# Altium integrated library AD Voltage Controlled Amplifier.IntLib: 8 symbols
Pins are listed as number, name and electrical type; pins without a type are passive.

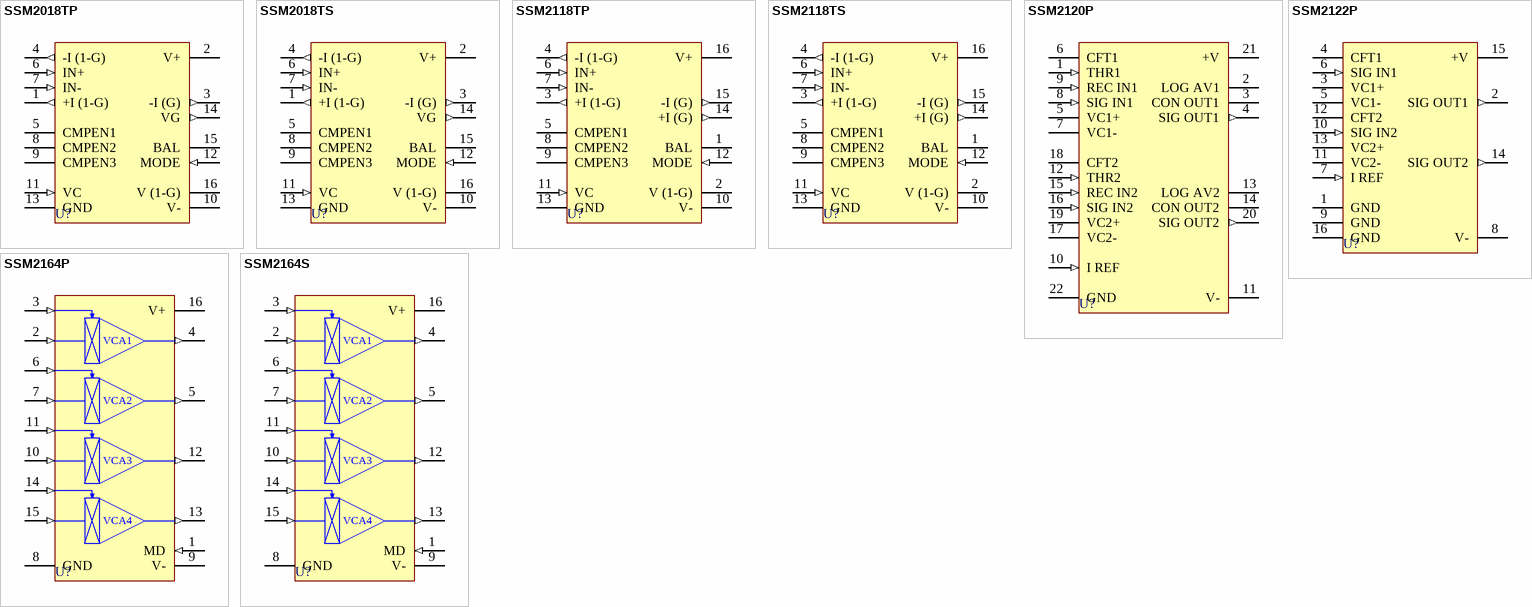
[diagram p0: symbols SSM2018TP to SSM2164S]

## SSM2018TP
designator U?
Trimless Voltage Controlled Amplifier; ComponentAvailability: Obsolete; Published: 8-Jun-2000; LatestRevisionDate: 04-Mar-2005; LatestRevisionNote: Stylized 3D Model Added.; DatasheetVersion: REV.A 1999; PackageReference: N-16_A; Publisher: Altium Limited; PackageDescription: DIP; 16 Leads; Row Spacing 7.62 mm; Pitch 2.54 mm; ComponentLink1Description: Manufacturer Link; ComponentLink1URL: http://www.analog.com/
footprint N-16_A (DIP; 16 Leads; Row Spacing 7.62 mm; Pitch 2.54 mm)
3D model N16-A (DIP; 16 Leads; Row Spacing 7.62 mm; Pitch 2.54 mm)
pins: 1 +I (1-G) (out), 2 V+ (power), 3 -I (G) (out), 4 -I (1-G) (out), 5 CMPEN1, 6 IN+ (in), 7 IN- (in), 8 CMPEN2, 9 CMPEN3, 10 V- (power), 11 VC (in), 12 MODE (in), 13 GND (power), 14 VG (out), 15 BAL, 16 V (1-G)

## SSM2018TS
designator U?
Trimless Voltage Controlled Amplifier; ComponentAvailability: Obsolete; Published: 8-Jun-2000; LatestRevisionDate: 13-Apr-2006; LatestRevisionNote: IPC-7351 Footprint Added.; DatasheetVersion: REV.A 1999; PackageVersion: revA 1996; PackageReference: R-16; Publisher: Altium Limited; PackageDescription: 16-Pin Small Outline Integrated Circuit 1.27 mm Pitch; Code_JEDEC: MS-013-AA; Code_IPC: SOIC127P1030-16; ComponentLink1Description: Manufacturer Link; ComponentLink1URL: http://www.analog.com/
footprint R-16_N (SOIC, 16-Leads, Body 10.3x7.5mm, Pitch 1.27mm, IPC Medium Density)
footprint R-16_L (SOIC, 16-Leads, Body 10.3x7.5mm, Pitch 1.27mm, IPC High Density)
footprint R-16_M (SOIC, 16-Leads, Body 10.3x7.5mm, Pitch 1.27mm, IPC Low Density)
3D model R-16 (16-Pin Small Outline Integrated Circuit 1.27 mm Pitch)
pins: 1 +I (1-G) (out), 2 V+ (power), 3 -I (G) (out), 4 -I (1-G) (out), 5 CMPEN1, 6 IN+ (in), 7 IN- (in), 8 CMPEN2, 9 CMPEN3, 10 V- (power), 11 VC (in), 12 MODE (in), 13 GND (power), 14 VG (out), 15 BAL, 16 V (1-G)

## SSM2118TP
designator U?
Trimless Voltage Controlled Amplifier; ComponentAvailability: Obsolete; Published: 8-Jun-2000; LatestRevisionDate: 04-Mar-2005; LatestRevisionNote: Stylized 3D Model Added.; DatasheetVersion: REV.A 1999; PackageReference: N-16_A; Publisher: Altium Limited; PackageDescription: DIP; 16 Leads; Row Spacing 7.62 mm; Pitch 2.54 mm; ComponentLink1Description: Manufacturer Link; ComponentLink1URL: http://www.analog.com/
footprint N-16_A (DIP; 16 Leads; Row Spacing 7.62 mm; Pitch 2.54 mm)
3D model N16-A (DIP; 16 Leads; Row Spacing 7.62 mm; Pitch 2.54 mm)
pins: 1 BAL, 2 V (1-G), 3 +I (1-G) (out), 4 -I (1-G) (out), 5 CMPEN1, 6 IN+ (in), 7 IN- (in), 8 CMPEN2, 9 CMPEN3, 10 V- (power), 11 VC (in), 12 MODE (in), 13 GND (power), 14 +I (G) (out), 15 -I (G) (out), 16 V+ (power)

## SSM2118TS
designator U?
Trimless Voltage Controlled Amplifier; ComponentAvailability: Obsolete; Published: 8-Jun-2000; LatestRevisionDate: 13-Apr-2006; LatestRevisionNote: IPC-7351 Footprint Added.; DatasheetVersion: REV.A 1999; PackageVersion: revA 1996; PackageReference: R-16; Publisher: Altium Limited; PackageDescription: 16-Pin Small Outline Integrated Circuit 1.27 mm Pitch; Code_JEDEC: MS-013-AA; Code_IPC: SOIC127P1030-16; ComponentLink1Description: Manufacturer Link; ComponentLink1URL: http://www.analog.com/
footprint R-16_N (SOIC, 16-Leads, Body 10.3x7.5mm, Pitch 1.27mm, IPC Medium Density)
footprint R-16_L (SOIC, 16-Leads, Body 10.3x7.5mm, Pitch 1.27mm, IPC High Density)
footprint R-16_M (SOIC, 16-Leads, Body 10.3x7.5mm, Pitch 1.27mm, IPC Low Density)
3D model R-16 (16-Pin Small Outline Integrated Circuit 1.27 mm Pitch)
pins: 1 BAL, 2 V (1-G), 3 +I (1-G) (out), 4 -I (1-G) (out), 5 CMPEN1, 6 IN+ (in), 7 IN- (in), 8 CMPEN2, 9 CMPEN3, 10 V- (power), 11 VC (in), 12 MODE (in), 13 GND (power), 14 +I (G) (out), 15 -I (G) (out), 16 V+ (power)

## SSM2120P
designator U?
Dynamic Range Processor/Dual VCA; ComponentAvailability: Obsolete; Published: 8-Jun-2000; LatestRevisionDate: 04-Mar-2005; LatestRevisionNote: Stylized 3D Model Added.; DatasheetVersion: REV.C 1995; PackageVersion: revC; PackageReference: N-22; Publisher: Altium Limited; PackageDescription: DIP; 22 Leads; Row Spacing 7.62 mm; Pitch 2.54 mm; ComponentLink1Description: Manufacturer Link; ComponentLink1URL: http://www.analog.com/; ComponentLink2Description: Datasheet; ComponentLink2URL: http://www.analog.com/UploadedFiles/Obsolete_Data_Sheets/105738070SSM2120.pdf
footprint N-22 (DIP; 22 Leads; Row Spacing 7.62 mm; Pitch 2.54 mm)
3D model N22 (DIP; 22 Leads; Row Spacing 7.62 mm; Pitch 2.54 mm)
pins: 1 THR1 (in), 2 LOG AV1 (oe), 3 CON OUT1 (oe), 4 SIG OUT1 (out), 5 VC1+, 6 CFT1, 7 VC1-, 8 SIG IN1 (in), 9 REC IN1 (in), 10 I REF (in), 11 V- (power), 12 THR2 (in), 13 LOG AV2 (oe), 14 CON OUT2 (oe), 15 REC IN2 (in), 16 SIG IN2 (in), 17 VC2-, 18 CFT2, 19 VC2+, 20 SIG OUT2 (out), 21 +V (power), 22 GND (power)

## SSM2122P
designator U?
Dynamic Range Processor/Dual VCA; ComponentAvailability: Obsolete; Published: 8-Jun-2000; LatestRevisionDate: 04-Mar-2005; LatestRevisionNote: Stylized 3D Model Added.; DatasheetVersion: REV.C 1995; PackageReference: N-16_A; Publisher: Altium Limited; PackageDescription: DIP; 16 Leads; Row Spacing 7.62 mm; Pitch 2.54 mm; ComponentLink1Description: Manufacturer Link; ComponentLink1URL: http://www.analog.com/; ComponentLink2Description: Datasheet; ComponentLink2URL: http://www.analog.com/UploadedFiles/Obsolete_Data_Sheets/105738070SSM2120.pdf
footprint N-16_A (DIP; 16 Leads; Row Spacing 7.62 mm; Pitch 2.54 mm)
3D model N16-A (DIP; 16 Leads; Row Spacing 7.62 mm; Pitch 2.54 mm)
pins: 1 GND (power), 2 SIG OUT1 (out), 3 VC1+, 4 CFT1, 5 VC1-, 6 SIG IN1 (in), 7 I REF (in), 8 V- (power), 9 GND (power), 10 SIG IN2 (in), 11 VC2-, 12 CFT2, 13 VC2+, 14 SIG OUT2 (out), 15 +V (power), 16 GND (power)

## SSM2164P
designator U?
Low-Cost Quad Voltage Controlled Amplifier; Published: 8-Jun-2000; LatestRevisionDate: 04-Mar-2005; LatestRevisionNote: Stylized 3D Model Added.; DatasheetVersion: REV.0 1999; PackageReference: N-16_A; Publisher: Altium Limited; PackageDescription: DIP; 16 Leads; Row Spacing 7.62 mm; Pitch 2.54 mm; ComponentLink1Description: Manufacturer Link; ComponentLink1URL: http://www.analog.com/en/prod/0%2C2877%2CSSM2164%2C00.html; ComponentLink2Description: Datasheet; ComponentLink2URL: http://www.analog.com/UploadedFiles/Data_Sheets/15183786ssm2164.pdf
footprint N-16_A (DIP; 16 Leads; Row Spacing 7.62 mm; Pitch 2.54 mm)
3D model N16-A (DIP; 16 Leads; Row Spacing 7.62 mm; Pitch 2.54 mm)
pins: 1 MD (in), 2 I IN1 (in), 3 VC1 (in), 4 I OUT1 (out), 5 I OUT2 (out), 6 VC2 (in), 7 I IN2 (in), 8 GND (power), 9 V- (power), 10 I IN3 (in), 11 VC3 (in), 12 I OUT3 (out), 13 I OUT4 (out), 14 VC4 (in), 15 I IN4 (in), 16 V+ (power)
text: VCA1; VCA2; VCA3; VCA4

## SSM2164S
designator U?
Low-Cost Quad Voltage Controlled Amplifier; Published: 8-Jun-2000; LatestRevisionDate: 13-Apr-2006; LatestRevisionNote: IPC-7351 Footprint Added.; DatasheetVersion: REV.0 1999; PackageReference: R-16A; Publisher: Altium Limited; PackageDescription: 16-Pin Small Outline Integrated Circuit 1.27 mm Pitch; Code_JEDEC: MS-012-AC; Code_IPC: SOIC127P600-16; ComponentLink1Description: Manufacturer Link; ComponentLink1URL: http://www.analog.com/en/prod/0%2C2877%2CSSM2164%2C00.html; ComponentLink2Description: Datasheet; ComponentLink2URL: http://www.analog.com/UploadedFiles/Data_Sheets/15183786ssm2164.pdf
footprint R-16A_N (SOIC, 16-Leads, Body 9.9x3.9mm, Pitch 1.27mm, IPC Medium Density)
footprint R-16A_L (SOIC, 16-Leads, Body 9.9x3.9mm, Pitch 1.27mm, IPC High Density)
footprint R-16A_M (SOIC, 16-Leads, Body 9.9x3.9mm, Pitch 1.27mm, IPC Low Density)
3D model R-16A (16-Pin Small Outline Integrated Circuit 1.27 mm Pitch)
pins: 1 MD (in), 2 I IN1 (in), 3 VC1 (in), 4 I OUT1 (out), 5 I OUT2 (out), 6 VC2 (in), 7 I IN2 (in), 8 GND (power), 9 V- (power), 10 I IN3 (in), 11 VC3 (in), 12 I OUT3 (out), 13 I OUT4 (out), 14 VC4 (in), 15 I IN4 (in), 16 V+ (power)
text: VCA1; VCA2; VCA3; VCA4